# EAGLE library part DS3232M (library Clock components)
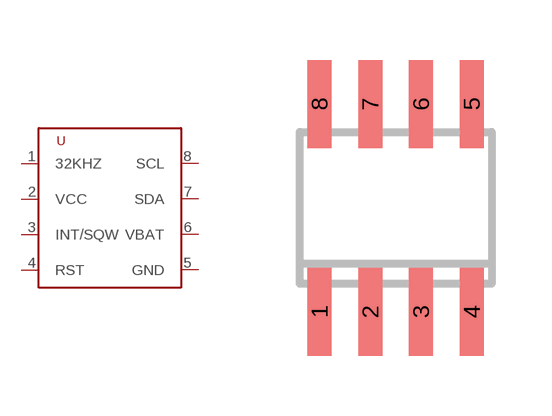
[diagram p4: symbol with the pads of SO8; footprint SO8]

Designator prefix -

## DS3232M  [SO8]
1  32KHZ
2  VCC
3  INT/SQW
4  RST
5  GND
6  VBAT
7  SDA
8  SCL

## Footprint SO8 (pad centres in mm)
8-Lead Small Outline IC (SO-8) Source: http://www.analog.com/UploadedFiles/Data_Sheets/703465986AD8611_2_0.pdf
smd 0.6 x 2.2: 1 -1.905,-2.6; 2 -0.635,-2.6; 3 0.635,-2.6; 4 1.905,-2.6; 5 1.905,2.6; 6 0.635,2.6; 7 -0.635,2.6; 8 -1.905,2.6